# Altium footprint library 接插件.PcbLib: 91 footprints (part 5 of 6)
Each footprint in its own frame and in the unit in brackets; x right, y up, seen from the top. Pads: shape width x height; smd on the part's side, far side on the other; paste and mask are expansions set on the pad; w line width, h text height; cw(c..) or ccw(c..) is an arc to the next point about the centre after c.
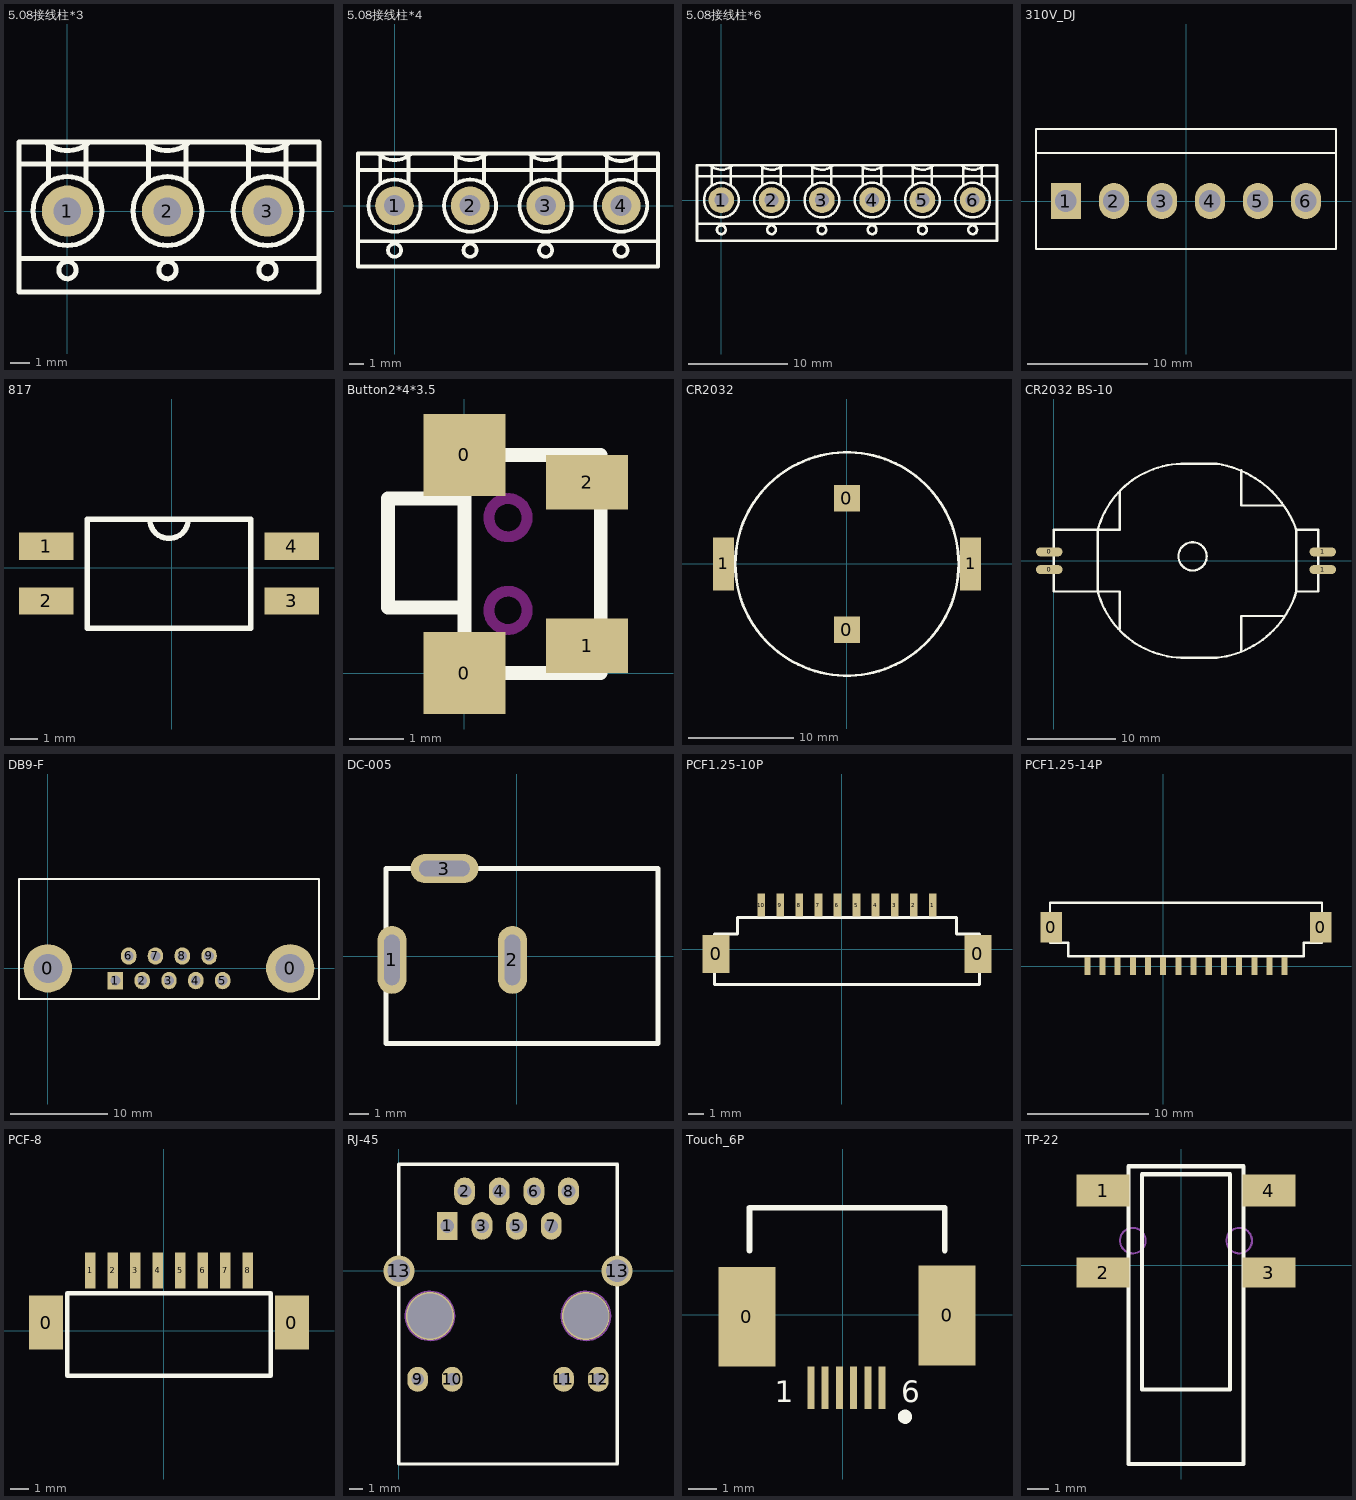
[diagram p4: the footprints below, top view; thin cyan lines are the x and y axes]

## 5.08接线柱*3 [mm]
pads (3):
  round 2.6 hole 1.4: 1(0,0) 2(5.08,0) 3(10.16,0)
Top Overlay:
  circle w0.254: c0,0 r1.75
  circle w0.254: c5.08,0 r1.75
  circle w0.254: c0,-3 r0.44
  circle w0.254: c5.08,-3 r0.44
  circle w0.254: c10.16,0 r1.75
  circle w0.254: c10.16,-3 r0.44
  lines w0.254: -2.46,-2.4 12.776,-2.4 ; -2.46,2.4 12.776,2.4 ; -1.086,3.471 ccw(c0,4.7) 1.074,3.461 ; -0.96,1.5 -0.96,3.5 ; 0.94,1.5 0.94,3.5 ; 3.994,3.471 ccw(c5.08,4.7) 6.154,3.461 ; 4.12,1.5 4.12,3.5 ; 6.02,1.5 6.02,3.5 ; 9.074,3.471 ccw(c10.16,4.7) 11.234,3.461 ; 9.2,1.5 9.2,3.5 ; 11.1,1.5 11.1,3.5 ; -2.46,-4.1 -2.46,3.5 12.776,3.5 12.776,-4.1 -2.46,-4.1

## 5.08接线柱*4 [mm]
pads (4):
  round 2.6 hole 1.4: 1(0,0) 2(5.08,0) 3(10.16,0) 4(15.24,0)
Top Overlay:
  circle w0.254: c15.24,-3 r0.44
  circle w0.254: c10.16,-3 r0.44
  circle w0.254: c10.16,0 r1.75
  circle w0.254: c5.08,-3 r0.44
  circle w0.254: c0,-3 r0.44
  circle w0.254: c5.08,0 r1.75
  circle w0.254: c0,0 r1.75
  circle w0.25: c15.24,0 r1.75
  lines w0.25: 14.28,1.48 14.28,3.32 ; 16.22,1.47 16.22,3.3
  lines w0.254: -2.46,-2.4 17.72,-2.4 ; -2.46,2.4 17.72,2.4 ; -1.086,3.471 ccw(c0,4.7) 1.074,3.461 ; -0.96,1.5 -0.96,3.5 ; 0.94,1.5 0.94,3.5 ; 3.994,3.471 ccw(c5.08,4.7) 6.154,3.461 ; 4.12,1.5 4.12,3.5 ; 6.02,1.5 6.02,3.5 ; 9.074,3.471 ccw(c10.16,4.7) 11.234,3.461 ; 9.2,1.5 9.2,3.5 ; 11.1,1.5 11.1,3.5 ; 14.154,3.411 ccw(c15.24,4.64) 16.314,3.401 ; -2.46,-4.1 17.72,-4.1 17.72,3.5 -2.46,3.5 -2.46,-4.1

## 5.08接线柱*6 [mm]
pads (6):
  round 2.6 hole 1.4: 1(0,0) 2(5.08,0) 3(10.16,0) 4(15.24,0) 5(20.32,0) 6(25.4,0)
Top Overlay:
  circle w0.254: c20.32,0 r1.75
  circle w0.254: c25.4,0 r1.75
  circle w0.254: c20.32,-3 r0.44
  circle w0.254: c25.4,-3 r0.44
  circle w0.254: c10.16,0 r1.75
  circle w0.254: c15.24,0 r1.75
  circle w0.254: c10.16,-3 r0.44
  circle w0.254: c15.24,-3 r0.44
  circle w0.254: c0,0 r1.75
  circle w0.254: c5.08,0 r1.75
  circle w0.254: c0,-3 r0.44
  circle w0.254: c5.08,-3 r0.44
  lines w0.254: -2.46,-2.4 7.7,-2.4 17.86,-2.4 27.86,-2.4 ; -2.46,2.4 7.7,2.4 17.86,2.4 27.86,2.4 ; -1.086,3.471 ccw(c0,4.7) 1.074,3.461 ; -0.96,1.5 -0.96,3.5 ; 0.94,1.5 0.94,3.5 ; 3.994,3.471 ccw(c5.08,4.7) 6.154,3.461 ; 4.12,1.5 4.12,3.5 ; 6.02,1.5 6.02,3.5 ; 9.074,3.471 ccw(c10.16,4.7) 11.234,3.461 ; 9.2,1.5 9.2,3.5 ; 11.1,1.5 11.1,3.5 ; 14.154,3.471 ccw(c15.24,4.7) 16.314,3.461 ; 14.28,1.5 14.28,3.5 ; 16.18,1.5 16.18,3.5 ; 19.234,3.471 ccw(c20.32,4.7) 21.394,3.461 ; 19.36,1.5 19.36,3.5 ; 21.26,1.5 21.26,3.5 ; 24.314,3.471 ccw(c25.4,4.7) 26.474,3.461 ; 24.44,1.5 24.44,3.5 ; 26.34,1.5 26.34,3.5 ; -2.46,-4.1 -2.46,3.5 7.7,3.5 17.86,3.5 27.86,3.5 27.86,-4.1 17.86,-4.1 7.7,-4.1 -2.46,-4.1

## 310V_DJ [mm]
pads (6):
  rect 2.5x3 hole 1.8: 1(-10.008,0)
  oval 2.5x3 hole 1.8: 2(-6.008,0) 3(-2.008,0) 4(1.992,0) 5(5.992,0) 6(9.992,0)
Top Overlay:
  lines w0.2: -12.5,4 12.5,4 ; 12.497,5.969 12.5,5.966 12.5,4 ; 12.5,6 -12.5,6 -12.5,-4 12.5,-4 12.5,4

## 817 [mm]
pads (4):
  rect 2x1 smd: 1(-4.597,0.787) 2(-4.597,-1.213) 3(4.403,-1.213) 4(4.403,0.787)
Top Overlay:
  lines w0.2: -0.805,1.787 ccw(c-0.097,1.787) 0.61,1.787 ; -3.097,-2.213 2.903,-2.213 2.903,1.787 -3.097,1.787 -3.097,-2.213

## Button2*4*3.5 [mm]
pads (4):
  rect 1.5x1.5 smd: 0(0,0) 0(0,4)
  rect 1.5x1 smd: 1(2.25,0.5) 2(2.25,3.5)
Top Overlay:
  lines w0.254: 0,1.2 -1.4,1.2 -1.4,3.2 0,3.2 ; 0,0 2.5,0 2.5,4 0,4 0,0
Keep-Out Layer:
  circle w0.2: c0.8,2.85 r0.35
  circle w0.2: c0.8,1.15 r0.35

## CR2032 [mm]
pads (4):
  rect 2.5x2.5 smd: 0(0,-6.25) 0(0,6.25)
  rect 2x5 smd: 1(-11.735,0) 1(11.735,0)
Top Overlay:
  circle w0.254: c0,0 r10.6

## CR2032 BS-10 [mm]
pads (4):
  oval 3x1 smd: 0(-0.5,-1) 0(-0.5,1) 1(30.5,-1) 1(30.5,1)
Top Overlay:
  circle w0.254: c15.75,0.5 r1.601
  lines w0.254: 7.5,-7.75 7.5,-3.5 5,-3.5 ; 7.5,7.75 7.5,3.5 5,3.5 ; 21.25,-10.25 21.25,-6.25 26,-6.25 ; 21.25,10.25 21.25,6.25 26,6.25 ; 5,-3.5 ccw(c14.805,-0.843) 15,-11 18.5,-11 ccw(c17.33,-0.445) 27.5,-3.5 ; 5,-3.5 5,3.5 ; 5,-3.5 0,-3.5 0,3.5 5,3.5 ; 5,3.5 cw(c14.805,0.843) 15,11 18.5,11 cw(c16.65,-0.37) 27.5,3.5 ; 27.5,-3.5 27.5,3.5 ; 27.5,-3.5 30,-3.5 30,3.5 27.5,3.5

## DB9-F [mm]
pads (11):
  round 5 hole 3: 0(0,-0.025) 0(25.044,-0.025)
  rect 1.6x1.8 hole 1: 1(6.985,-1.295)
  oval 1.6x1.8 hole 1: 2(9.754,-1.295) 3(12.522,-1.295) 4(15.291,-1.295) 5(18.059,-1.295) 6(8.357,1.245) 7(11.125,1.245) 8(13.894,1.245) 9(16.662,1.245)
Top Overlay:
  lines w0.2: -2.978,-3.2 -2.978,9.2 28.022,9.2
  lines w0.203: -2.978,-3.2 28.022,-3.2 28.022,9.2

## DC-005 [mm]
pads (3):
  oval 1.5x3.5 hole 0.8 slot 2.6 at 90 deg: 1(-6.436,-0.179) 2(-0.236,-0.179)
  oval 3.5x1.5 hole 0.8 slot 2.6 at 0 deg: 3(-3.736,4.521)
Top Overlay:
  lines w0.254: -6.736,-4.479 7.264,-4.479 7.264,4.521 -6.736,4.521 -6.736,-4.449

## PCF1.25-10P [mm]
pads (12):
  rect 1.8x2.5 smd: 0(-8.247,-0.312) 0(8.953,-0.312)
  rect 0.5x1.5 smd: 1(5.978,2.888) 2(4.728,2.888) 3(3.478,2.888) 4(2.228,2.888) 5(0.978,2.888) 6(-0.272,2.888) 7(-1.522,2.888) 8(-2.772,2.888) 9(-4.022,2.888) 10(-5.272,2.888)
Top Overlay:
  lines w0.2: -8.347,-2.312 -8.347,0.988 -6.847,0.988 -6.847,2.088 7.553,2.088 7.553,0.988 9.053,0.988 9.053,-2.312 -8.347,-2.312

## PCF1.25-14P [mm]
pads (16):
  rect 1.8x2.5 smd: 0(-9.232,3.208) 0(12.972,3.208)
  rect 0.5x1.5 smd: 1(-6.257,0.008) 2(-5.007,0.008) 3(-3.757,0.008) 4(-2.507,0.008) 5(-1.257,0.008) 6(-0.007,0.008) 7(1.243,0.008) 8(2.493,0.008) 9(3.743,0.008) 10(4.993,0.008) 11(6.247,0.008) 12(7.497,0.008) 13(8.747,0.008) 14(9.997,0.008)
Top Overlay:
  lines w0.2: -9.332,1.908 -7.832,1.908 -7.832,0.808 11.572,0.808 11.572,1.908 13.072,1.908 13.072,5.208 -9.332,5.208 -9.332,1.908

## PCF-8 [mm]
pads (10):
  rect 1.9x3 smd: 0(-6.546,0.445) 0(7.104,0.445)
  rect 0.6x2 smd: 1(-4.096,3.345) 2(-2.846,3.345) 3(-1.596,3.345) 4(-0.346,3.345) 5(0.904,3.345) 6(2.154,3.345) 7(3.404,3.345) 8(4.654,3.345)
Top Overlay:
  lines w0.254: -5.366,-2.497 -5.366,2.075 5.937,2.075 5.937,-2.497 -5.366,-2.497

## RJ-45 [mil]
pads (14):
  rect 60x80 hole 40: 1(139.76,129.92)
  oval 60x80 hole 40: 2(189.76,229.92) 3(239.76,129.92) 4(289.76,229.92) 5(339.76,129.92) 6(389.76,229.92) 7(439.76,129.92) 8(489.76,229.92)
  oval 60x72 hole 36: 9(54.13,-312.99) 10(153.76,-312.99) 11(475.63,-312.99) 12(575.76,-312.99)
  round 90 hole 65: 13(0,0) 13(629.92,0)
via 89.58,-129.92 diameter 137.8 hole 129.92
via 539.58,-129.92 diameter 137.8 hole 129.92
Top Overlay:
  lines w10: -0.24,308.66 0,308.43 ; 629.76,308.66 629.92,308.5 ; 0,308.43 0,0 0,-557.24 -0.24,-557.48 629.76,-557.48 629.92,-557.32 629.92,0 629.92,308.5 ; 0,308.43 0.08,308.5 629.92,308.5
Mechanical 1:
  circle w5: c539.76,-130.08 r70.8
  circle w5: c89.76,-130.08 r70.8

## Touch_6P [mm]
pads (8):
  rect 2x3.5 smd: 0(-3.368,-0.065) 0(3.668,-0.025)
  rect 0.25x1.5 smd: 1(-1.118,-2.565) 2(-0.618,-2.565) 3(-0.118,-2.565) 4(0.382,-2.565) 5(0.882,-2.565) 6(1.382,-2.565)
Top Overlay:
  circle w0.25: c2.186,-3.581 r0.125
  lines w0.203: -3.277,2.261 -3.277,3.759 -2.332,3.759 3.581,3.759 3.581,2.261
  text "6" at 2.057,-3.073 h0.76
  text "1" at -2.388,-3.073 h0.76

## TP-22 [mm]
pads (4):
  rect 2.5x1.5 smd: 1(-3.685,3.506) 4(4.115,3.506)
  rect 2.5x1.4 smd: 2(-3.685,-0.344) 3(4.115,-0.344)
Top Overlay:
  lines w0.2: -2.485,-9.344 2.915,-9.344 2.915,4.656 -2.485,4.656 -2.485,-9.344 ; -1.855,-5.844 2.285,-5.844 2.285,4.273 -1.855,4.273 -1.855,-5.844
Mechanical 1:
  circle w0.1: c2.715,1.156 r0.6
  circle w0.1: c-2.285,1.156 r0.6